# EAGLE library part USB-CON-5PIN (library sduino)
Molex Micro USB 105017-0001
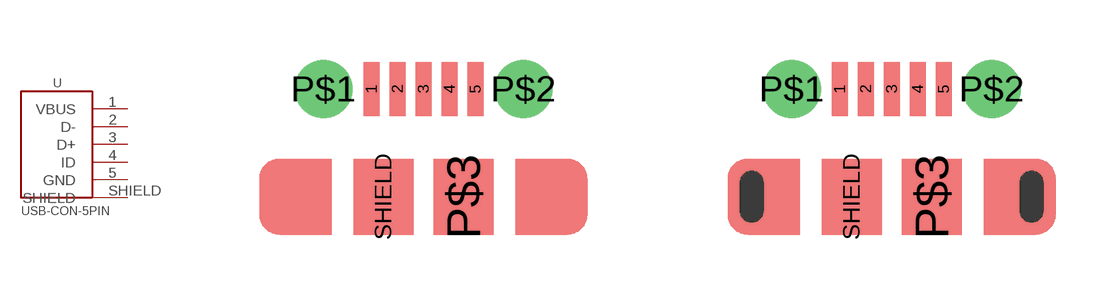
[diagram p7: symbol with the pads of USB-MICRO-MOLEX-105017-0001; footprints USB-MICRO-MOLEX-105017-0001, USB-MICRO-MOLEX-105017-0001_V2]

Designator prefix -

## USB-CON-5PIN-105017-0001  [USB-MICRO-MOLEX-105017-0001]
1  VBUS  pwr
2  D-
3  D+
4  ID
5  GND  pwr
SHIELD  SHIELD  pwr

## USB-CON-5PIN  [USB-MICRO-MOLEX-105017-0001_V2]
Pads as for USB-MICRO-MOLEX-105017-0001

## Footprint USB-MICRO-MOLEX-105017-0001 (pad centres in mm)
Molex Micro USB 105017-0001
smd 0.4 x 1.35: 1 1.2,0; 2 1.85,0; 3 2.5,0; 4 3.15,0; 5 3.8,0
drill 0.85 pad 1.45: P$1 0,0; P$2 5,0
smd 1.5 x 1.9: P$3 3.5,-2.7; SHIELD 1.5,-2.7

## Footprint USB-MICRO-MOLEX-105017-0001_V2 (pad centres in mm)
Molex Micro USB 105017-0001
smd 0.4 x 1.35: 1 1.2,0; 2 1.85,0; 3 2.5,0; 4 3.15,0; 5 3.8,0
drill 0.85 pad 1.45: P$1 0,0; P$2 5,0
smd 1.5 x 1.9: P$3 3.5,-2.7; SHIELD 1.5,-2.7